# EAGLE library part MEZZANINE_PLUG (library J-Molex-05xxxx030x-30pin-mezzanine-connector-M+F)
30 pin board to board connector Locking mezzanine connector Datasheet <https://www.molex.com/pdm_docs/sd/555600307_sd.pdf>
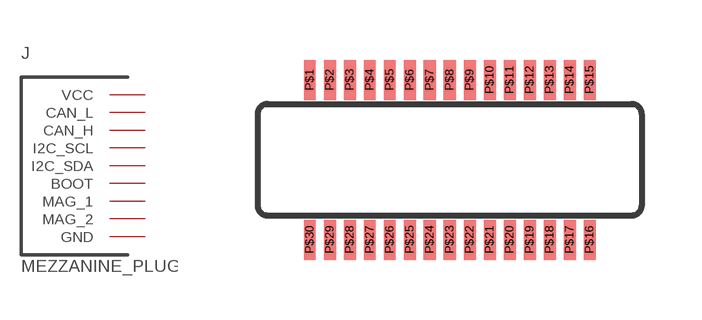
[diagram p0: symbol with the pads of MEZZANINE_PLUG; footprint MEZZANINE_PLUG]

Designator prefix J

## MEZZANINE_PLUG (DESCRIPTION: 30 pos board to board connector; DIST: Digi-Key; DIST_PN: WM9218CT-ND; GENERIC: N; MFG: Molex; MFG_PN: 0555600307; P-NP: P)  [MEZZANINE_PLUG]
P$1  GND
P$2  GND
P$3  VCC
P$4  VCC
P$5  CAN_L
P$6  CAN_H
P$7  I2C_SCL
P$8  I2C_SDA
P$9  BOOT
P$10  MAG_1
P$11  MAG_2
P$12  VCC
P$13  VCC
P$14  GND
P$15  GND
P$16  GND
P$17  GND
P$18  VCC
P$19  VCC
P$20  MAG_2
P$21  MAG_1
P$22  BOOT
P$23  I2C_SDA
P$24  I2C_SCL
P$25  CAN_H
P$26  CAN_L
P$27  VCC
P$28  VCC
P$29  GND
P$30  GND

## Footprint MEZZANINE_PLUG (pad centres in mm)
smd 0.3 x 1: P$1 -3.5,2; P$2 -3,2; P$3 -2.5,2; P$4 -2,2; P$5 -1.5,2; P$6 -1,2; P$7 -0.5,2; P$8 0,2; P$9 0.5,2; P$10 1,2; P$11 1.5,2; P$12 2,2; P$13 2.5,2; P$14 3,2; P$15 3.5,2; P$16 3.5,-2; P$17 3,-2; P$18 2.5,-2; P$19 2,-2; P$20 1.5,-2; P$21 1,-2; P$22 0.5,-2; P$23 0,-2; P$24 -0.5,-2; P$25 -1,-2; P$26 -1.5,-2; P$27 -2,-2; P$28 -2.5,-2; P$29 -3,-2; P$30 -3.5,-2